# EAGLE library part NC7WZ16P6X (library meng)
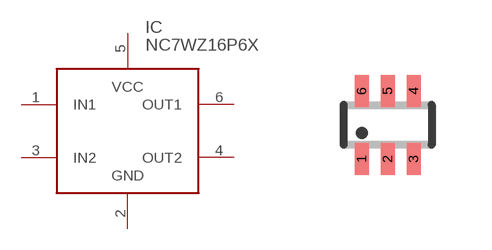
[diagram p6: symbol with the pads of SC70-6L; footprint SC70-6L]

Designator prefix IC

## NC7WZ16P6X  [SC70-6L]
1  IN1
2  GND
3  IN2
4  OUT2
5  VCC
6  OUT1

## Footprint SC70-6L (pad centres in mm)
SC-70 Package
smd 0.35 x 0.8: 1 -0.65,-0.85; 2 0,-0.85; 3 0.65,-0.85; 4 0.65,0.85; 5 0,0.85; 6 -0.65,0.85